# Altium schematic symbol library BLUETOOTH.SchLib: 1 symbol
Pins are listed as number, name and electrical type; pins without a type are passive.

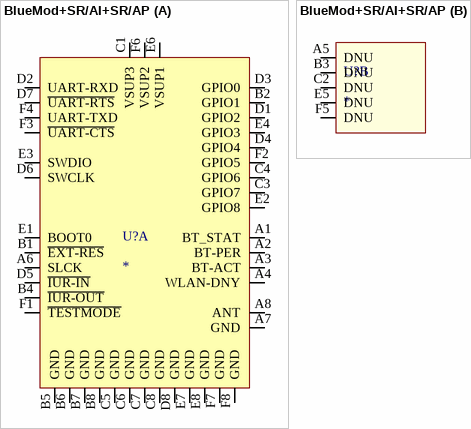
[diagram p0: symbol BlueMod+SR/AI+SR/AP]

## BlueMod+SR/AI+SR/AP
designator U?
Bluetooth V4.0 Compilant.
footprint BlueMod+SR/A (Bluetooth V4.0 Compilant)
part A pins: A1 BT_STAT, A2 BT-PER, A3 BT-ACT, A4 WLAN-DNY, A6 SLCK, A7 GND, A8 ANT, B1 ~{EXT-RES}, B2 GPIO1, B4 ~{IUR-OUT}, B5 GND, B6 GND, B7 GND, B8 GND, C1 VSUP3, C3 GPIO7, C4 GPIO6, C5 GND, C6 GND, C7 GND, C8 GND, D1 GPIO2, D2 UART-RXD, D3 GPIO0, D4 GPIO4, D5 ~{IUR-IN}, D6 SWCLK, D7 ~{UART-RTS}, D8 GND, E1 BOOT0, E2 GPIO8, E3 SWDIO, E4 GPIO3, E6 VSUP1, E7 GND, E8 GND, F1 ~{TESTMODE}, F2 GPIO5, F3 ~{UART-CTS}, F4 UART-TXD, F6 VSUP2, F7 GND, F8 GND
part B pins: A5 DNU, B3 DNU, C2 DNU, E5 DNU, F5 DNU